# Altium schematic symbol library Resistor_Trimmer.SchLib: 1 symbol
Pins are listed as number, name and electrical type; pins without a type are passive.

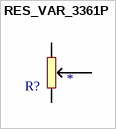
[diagram p0: symbol RES_VAR_3361P]

## RES_VAR_3361P
designator R?, comment ERP_101-1  (value not drawn)
TRIMMER 200 OHM 0.5W GW TOP ADJ; Manufacturer 1: Bourns Inc.; Package: L7.0XW6.7; Manufacturer Part Number 1: *; Supplier 1: *; Supplier Part Number 1: *; ERP: *; Value: *
footprint RES_VAR_3361P
pins: 1, 2, 3